# Altium footprint library all_kalex_Library.PcbLib: 234 footprints (part 7 of 15)
Each footprint in its own frame and in the unit in brackets; x right, y up, seen from the top. Pads: shape width x height; smd on the part's side, far side on the other; paste and mask are expansions set on the pad; w line width, h text height; cw(c..) or ccw(c..) is an arc to the next point about the centre after c.
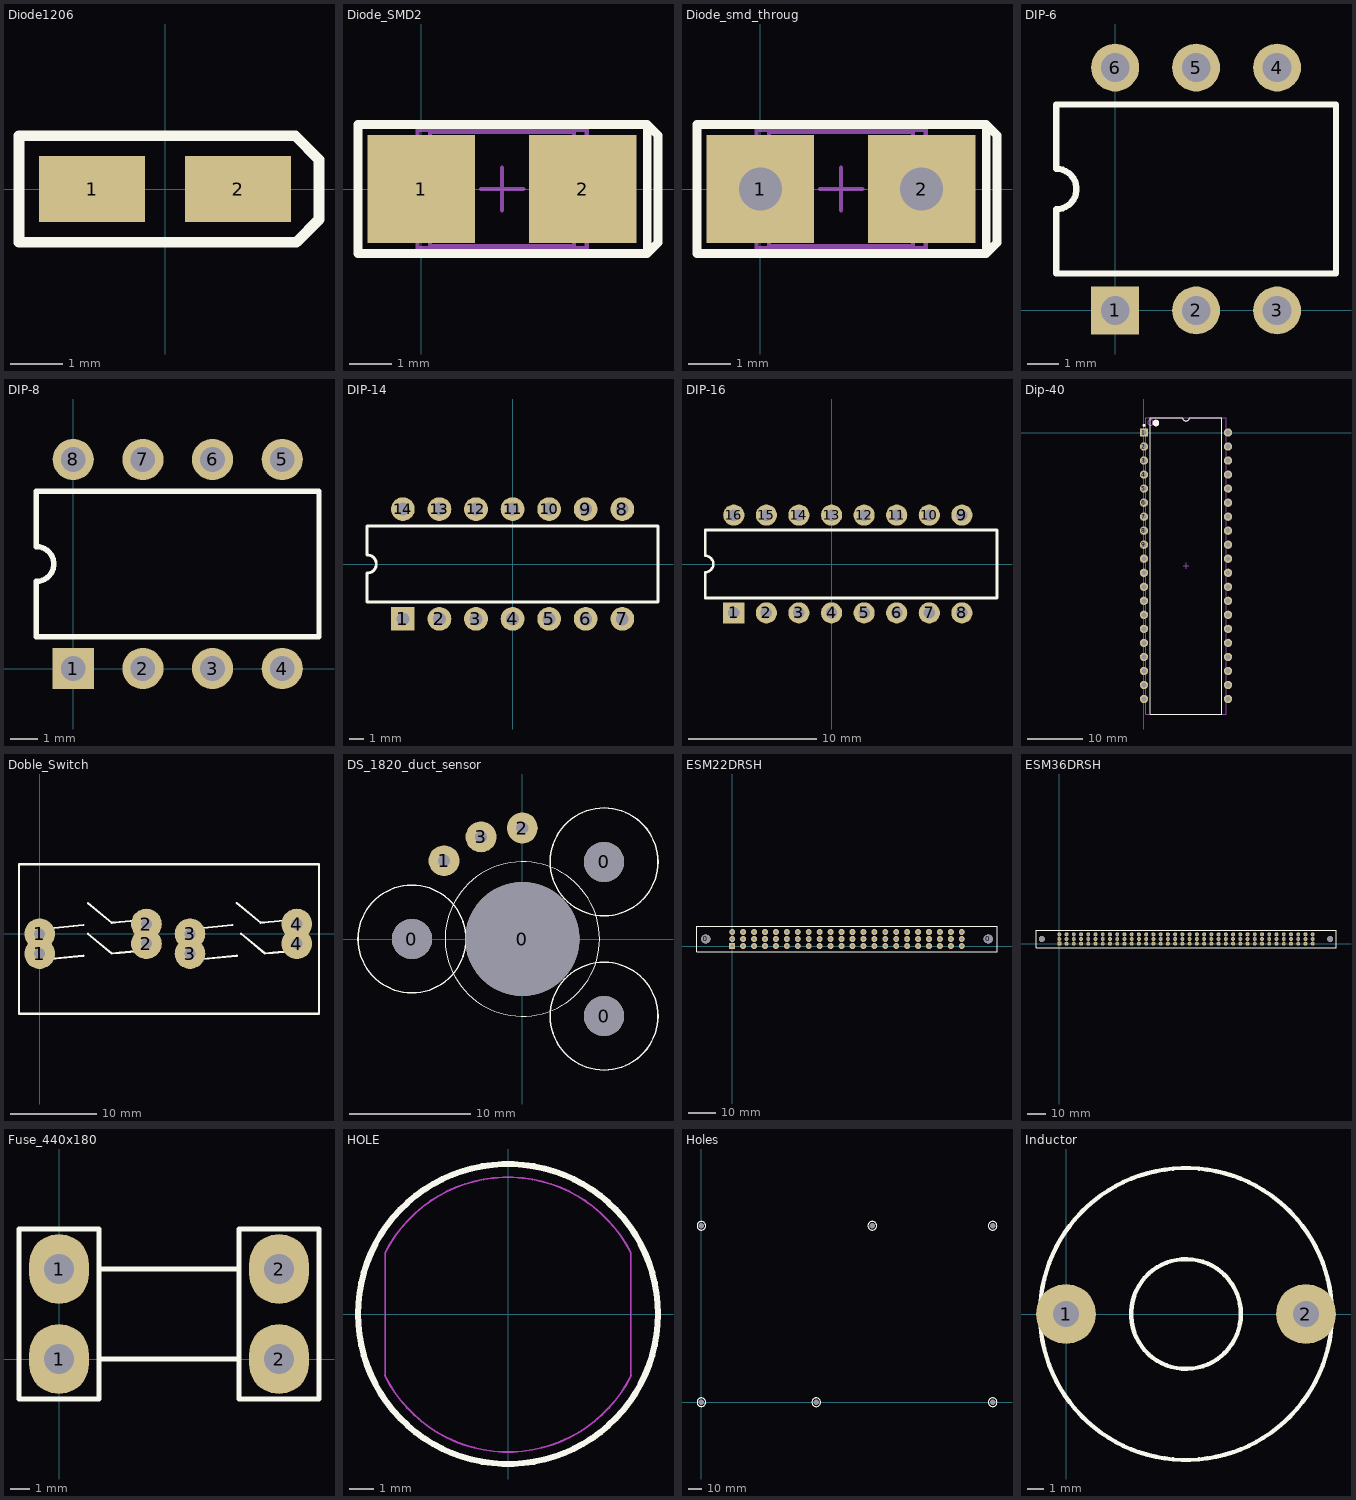
[diagram p6: the footprints below, top view; thin cyan lines are the x and y axes]

## Diode1206 [mil]
pads (2):
  rect 80x50 smd: 1(-55,0) 2(55,0)
Top Overlay:
  lines w8: -110,-40 99,-40 116,-23 116,22 98,40 -110,40 -110,0 -110,-40

## Diode_SMD2 [mil]
pads (2):
  rect 100x100 smd: 1(0,0) 2(150,0)
Top Overlay:
  lines w8: 210,-60 220,-50 220,50 210,60 ; 210,-60 210,60 ; 210,-60 -59,-60 -59,60 210,60
Mechanical 13:
  lines w3.94: 8.07,-53.15 8.07,53.15 141.93,53.15 141.93,-53.15 8.07,-53.15
Mechanical 15:
  lines w3.94: 55.31,0 94.69,0 ; 75,-19.69 75,19.68 ; -3.74,-55.12 -3.74,55.12 153.74,55.12 153.74,-55.12 -3.74,-55.12
3D body: height 51.18, standoff 0, extent 8.07,-53.15 141.93,53.15

## Diode_smd_throug [mil]
pads (2):
  rect 100x100 hole 40: 1(0,0) 2(150,0)
Top Overlay:
  lines w8: 210,-60 -59,-60 -59,60 210,60 ; 210,-60 210,60 ; 210,-60 220,-50 220,50 210,60
Mechanical 13:
  lines w3.94: 8.07,-53.15 141.93,-53.15 141.93,53.15 8.07,53.15 8.07,-53.15
Mechanical 15:
  lines w3.94: 55.31,0 94.69,0 ; 75,-19.69 75,19.68 ; -3.74,-55.12 153.74,-55.12 153.74,55.12 -3.74,55.12 -3.74,-55.12
3D body: height 51.18, standoff 0, extent 8.07,-53.15 141.93,53.15

## DIP-6 [mm]
pads (6):
  rect 1.5x1.5 hole 0.9: 1(0,0)
  round 1.5 hole 0.9: 2(2.54,0) 3(5.08,0) 4(5.08,7.62) 5(2.54,7.62) 6(0,7.62)
Top Overlay:
  lines w0.2: -1.848,1.16 6.928,1.16 6.928,6.46 -1.848,6.46 -1.848,4.445 cw(c-1.848,3.81) -1.848,3.175 -1.848,1.16

## DIP-8 [mm]
pads (8):
  rect 1.5x1.5 hole 0.9: 1(0,0)
  round 1.5 hole 0.9: 2(2.54,0) 3(5.08,0) 4(7.62,0) 5(7.62,7.62) 6(5.08,7.62) 7(2.54,7.62) 8(0,7.62)
Top Overlay:
  lines w0.2: -1.34,1.16 -1.34,3.175 ccw(c-1.34,3.81) -1.34,4.445 -1.34,6.46 8.96,6.46 8.96,1.16 -1.34,1.16

## DIP-14 [mil]
pads (14):
  rect 65x65 hole 35: 1(-300,-150)
  round 65 hole 35: 2(-200,-150) 3(-100,-150) 4(0,-150) 5(100,-150) 6(200,-150) 7(300,-150) 8(300,150) 9(200,150) 10(100,150) 11(0,150) 12(-100,150) 13(-200,150) 14(-300,150)
Top Overlay:
  lines w7.87: -397.64,-104.33 397.64,-104.33 397.64,104.33 -397.64,104.33 -397.64,25 cw(c-397.64,0) -397.64,-25 -397.64,-104.33

## DIP-16 [mil]
pads (16):
  rect 65x65 hole 35: 1(-300,-150)
  round 65 hole 35: 2(-200,-150) 3(-100,-150) 4(0,-150) 5(100,-150) 6(200,-150) 7(300,-150) 8(400,-150) 9(400,150) 10(300,150) 11(200,150) 12(100,150) 13(0,150) 14(-100,150) 15(-200,150) 16(-300,150)
Top Overlay:
  lines w7.87: -387.8,-104.33 507.8,-104.33 507.8,104.33 -387.8,104.33 -387.8,25 cw(c-387.8,0) -387.8,-25 -387.8,-104.33

## Dip-40 [mm]
pads (40):
  rect 1.5x1.5 hole 0.9: 1(0,0)
  round 1.5 hole 0.9: 2(0,-2.54) 3(0,-5.08) 4(0,-7.62) 5(0,-10.16) 6(0,-12.7) 7(0,-15.24) 8(0,-17.78) 9(0,-20.32) 10(0,-22.86) 11(0,-25.4) 12(0,-27.94) 13(0,-30.48) 14(0,-33.02) 15(0,-35.56) 16(0,-38.1) 17(0,-40.64) 18(0,-43.18) 19(0,-45.72) 20(0,-48.26) 21(15.24,-48.26) 22(15.24,-45.72) 23(15.24,-43.18) 24(15.24,-40.64) 25(15.24,-38.1) 26(15.24,-35.56) 27(15.24,-33.02) 28(15.24,-30.48) 29(15.24,-27.94) 30(15.24,-25.4) 31(15.24,-22.86) 32(15.24,-20.32) 33(15.24,-17.78) 34(15.24,-15.24) 35(15.24,-12.7) 36(15.24,-10.16) 37(15.24,-7.62) 38(15.24,-5.08) 39(15.24,-2.54) 40(15.24,0)
Top Overlay:
  circle w0.6: c2.17,1.72 r0.3
  circle w0.25: c0,1.3 r0.125
  lines w0.2: 1.17,-50.98 14.07,-50.98 14.07,2.72 8.255,2.72 cw(c7.62,2.72) 6.985,2.72 1.17,2.72 1.17,-50.98
Mechanical 13:
  circle w0.1: c1.22,1.82 r0.5
  lines w0.1: 0.32,-50.98 14.92,-50.98 14.92,2.72 0.32,2.72 0.32,-50.98
Mechanical 15:
  lines w0.1: 7.12,-24.13 8.12,-24.13 ; 7.62,-24.63 7.62,-23.63
3D body: height 6.35, standoff 0, extent 0.32,-50.98 14.92,2.72

## Doble_Switch [mil]
pads (8):
  round 140 hole 50: 1(0,-90) 1(0,0) 2(488,-45) 2(488,45) 3(687,-90) 3(687,0) 4(1175,-45) 4(1175,45)
Top Overlay:
  lines w10: 0,-120 200,-100 ; 0,20 200,40 ; 220.47,0.57 329.5,-89.69 366,-86.25 488,-75 ; 220.47,140.57 329.5,50.31 366,53.75 488,65 ; 680,20 880,40 ; 700,-120 900,-100 ; 900.47,140.57 1009.5,50.31 1046,53.75 1168,65 ; 920.47,0.57 1029.5,-89.69 1066,-86.25 1188,-75 ; -94,-365 1276,-365 1276,318 -94,318 -94,-365

## DS_1820_duct_sensor [mil]
pads (7):
  round 130 hole 130: 0(-358,0) 0(265,-250) 0(265,250)
  round 370 hole 370: 0(0,0)
  round 100 hole 40: 1(-254,254) 2(0,360) 3(-134,331)
Top Overlay:
  circle w4: c0,0 r250.6
  circle w5: c265,250 r175
  circle w5: c-358,0 r175
  circle w5: c265,-250 r175

## ESM22DRSH [mil]
pads (68):
  round 130 hole 130 unplated: 0(-377,100) 0(3653,100)
  rect 85x85 hole 45: 1(0,0)
  round 85 hole 45: 2(156,0) 3(312,0) 4(468,0) 5(624,0) 6(780,0) 7(936,0) 8(1092,0) 9(1248,0) 10(1404,0) 11(1560,0) 12(1716,0) 13(1872,0) 14(2028,0) 15(2184,0) 16(2340,0) 17(2496,0) 18(2652,0) 19(2808,0) 20(2964,0) 21(3120,0) 22(3276,0) 23(3276,200) 24(3120,200) 25(2964,200) 26(2808,200) 27(2652,200) 28(2496,200) 29(2340,200) 30(2184,200) 31(2028,200) 32(1872,200) 33(1716,200) 34(1560,200) 35(1404,200) 36(1248,200) 37(1092,200) 38(936,200) 39(780,200) 40(624,200) 41(468,200) 42(312,200) 43(156,200) 44(0,200) 45(0,100) 46(156,100) 47(312,100) 48(468,100) 49(624,100) 50(780,100) 51(936,100) 52(1092,100) 53(1248,100) 54(1404,100) 55(1560,100) 56(1716,100) 57(1872,100) 58(2028,100) 59(2184,100) 60(2340,100) 61(2496,100) 62(2652,100) 63(2808,100) 64(2964,100) 65(3120,100) 66(3276,100)
Top Overlay:
  lines w10: -502,-85 1870,-85 3778,-85 3778,285 -502,285 -502,-85

## ESM36DRSH [mil]
pads (110):
  rect 85x85 hole 45: 1(0,0)
  round 85 hole 45: 2(156,0) 3(312,0) 4(468,0) 5(624,0) 6(780,0) 7(936,0) 8(1092,0) 9(1248,0) 10(1404,0) 11(1560,0) 12(1716,0) 13(1872,0) 14(2028,0) 15(2184,0) 16(2340,0) 17(2496,0) 18(2652,0) 19(2808,0) 20(2964,0) 21(3120,0) 22(3276,0) 23(3432,0) 24(3588,0) 25(3744,0) 26(3900,0) 27(4056,0) 28(4212,0) 29(4368,0) 30(4524,0) 31(4680,0) 32(4836,0) 33(4992,0) 34(5148,0) 35(5304,0) 36(5460,0) 37(5460,200) 38(5304,200) 39(5148,200) 40(4992,200) 41(4836,200) 42(4680,200) 43(4524,200) 44(4368,200) 45(4212,200) 46(4056,200) 47(3900,200) 48(3744,200) 49(3588,200) 50(3432,200) 51(3276,200) 52(3120,200) 53(2964,200) 54(2808,200) 55(2652,200) 56(2496,200) 57(2340,200) 58(2184,200) 59(2028,200) 60(1872,200) 61(1716,200) 62(1560,200) 63(1404,200) 64(1248,200) 65(1092,200) 66(936,200) 67(780,200) 68(624,200) 69(468,200) 70(312,200) 71(156,200) 72(0,200) 73(0,100) 74(156,100) 75(312,100) 76(468,100) 77(624,100) 78(780,100) 79(936,100) 80(1092,100) 81(1248,100) 82(1404,100) 83(1560,100) 84(1716,100) 85(1872,100) 86(2028,100) 87(2184,100) 88(2340,100) 89(2496,100) 90(2652,100) 91(2808,100) 92(2964,100) 93(3120,100) 94(3276,100) 95(3432,100) 96(3588,100) 97(3744,100) 98(3900,100) 99(4056,100) 100(4212,100) 101(4368,100) 102(4524,100) 103(4680,100) 104(4836,100) 105(4992,100) 106(5148,100) 107(5304,100) 108(5460,100)
  round 130 hole 130 unplated: 67(-377,100) 68(5837,100)
Top Overlay:
  lines w10: -502,-85 -502,285 5962,285 5962,-85 1870,-85 -502,-85

## Fuse_440x180 [mil]
pads (4):
  oval 120x140 hole 60: 1(0,0) 1(0,180) 2(440,0) 2(440,180)
Top Overlay:
  lines w10: 80,0 360,0 ; 80,180 360,180 ; -80,-80 80,-80 80,260 -80,260 -80,-80 ; 360,-80 520,-80 520,260 360,260 360,-80

## HOLE [mil]
Top Overlay:
  circle w10: c0,0 r244.35
Keep-Out Layer:
  lines w3: -200.65,-100.32 ccw(c0,-0.75) 200.65,-100.32 ; -200,-100 -200,100 ; -199.91,99.95 cw(c0,-1.1) 199.91,99.95 ; 200,-100 200,100
Mechanical 1:
  lines w3: -200.65,-100.32 ccw(c0,-0.75) 200.65,-100.32 ; -200,-100 -200,100 ; -199.91,99.95 cw(c0,-1.1) 199.91,99.95 ; 200,-100 200,100

## Holes [mil]
pads (6):
  round 0 hole 160: 1(0,0) 2(3320,0) 3(8420,0) 4(8420,5100) 5(4940,5100) 6(0,5100)
Top Overlay:
  circle w10: c0,0 r125
  circle w10: c3320,0 r125
  circle w10: c8420,0 r125
  circle w10: c8420,5100 r125
  circle w10: c4940,5100 r125
  circle w10: c0,5100 r125

## Inductor [mil]
pads (2):
  round 140 hole 60: 1(0,0) 2(560,0)
Top Overlay:
  circle w10: c280,0 r340.59
  circle w10: c280,0 r128.06